# EAGLE library part ESP32 (library esp32)
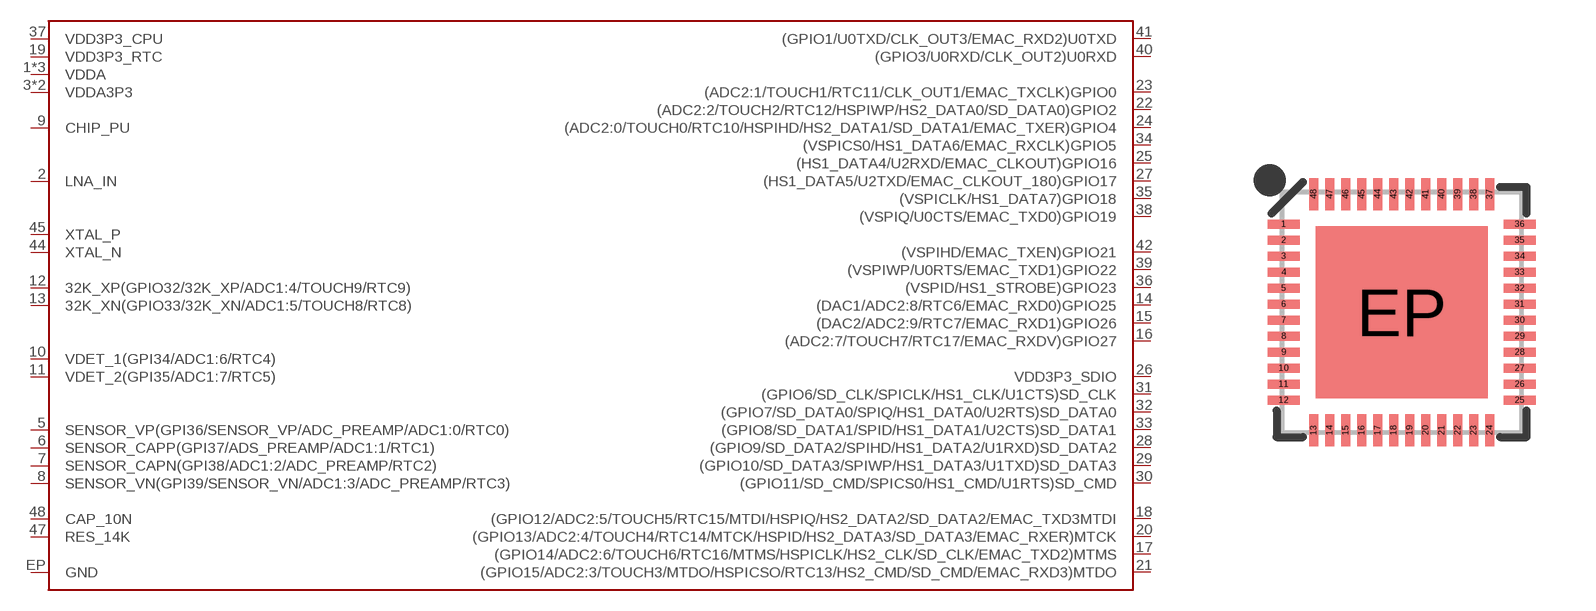
[diagram p0: symbol with the pads of QFN48-0.4MM; footprint QFN48-0.4MM]

Designator prefix -

## ESP32  [QFN48-0.4MM]
1  VDDA
2  LNA_IN
3  VDDA3P3
4  VDDA3P3
5  SENSOR_VP(GPI36/SENSOR_VP/ADC_PREAMP/ADC1:0/RTC0)
6  SENSOR_CAPP(GPI37/ADS_PREAMP/ADC1:1/RTC1)
7  SENSOR_CAPN(GPI38/ADC1:2/ADC_PREAMP/RTC2)
8  SENSOR_VN(GPI39/SENSOR_VN/ADC1:3/ADC_PREAMP/RTC3)
9  CHIP_PU
10  VDET_1(GPI34/ADC1:6/RTC4)
11  VDET_2(GPI35/ADC1:7/RTC5)
12  32K_XP(GPIO32/32K_XP/ADC1:4/TOUCH9/RTC9)
13  32K_XN(GPIO33/32K_XN/ADC1:5/TOUCH8/RTC8)
14  (DAC1/ADC2:8/RTC6/EMAC_RXD0)GPIO25
15  (DAC2/ADC2:9/RTC7/EMAC_RXD1)GPIO26
16  (ADC2:7/TOUCH7/RTC17/EMAC_RXDV)GPIO27
17  (GPIO14/ADC2:6/TOUCH6/RTC16/MTMS/HSPICLK/HS2_CLK/SD_CLK/EMAC_TXD2)MTMS
18  (GPIO12/ADC2:5/TOUCH5/RTC15/MTDI/HSPIQ/HS2_DATA2/SD_DATA2/EMAC_TXD3MTDI
19  VDD3P3_RTC
20  (GPIO13/ADC2:4/TOUCH4/RTC14/MTCK/HSPID/HS2_DATA3/SD_DATA3/EMAC_RXER)MTCK
21  (GPIO15/ADC2:3/TOUCH3/MTDO/HSPICSO/RTC13/HS2_CMD/SD_CMD/EMAC_RXD3)MTDO
22  (ADC2:2/TOUCH2/RTC12/HSPIWP/HS2_DATA0/SD_DATA0)GPIO2
23  (ADC2:1/TOUCH1/RTC11/CLK_OUT1/EMAC_TXCLK)GPIO0
24  (ADC2:0/TOUCH0/RTC10/HSPIHD/HS2_DATA1/SD_DATA1/EMAC_TXER)GPIO4
25  (HS1_DATA4/U2RXD/EMAC_CLKOUT)GPIO16
26  VDD3P3_SDIO
27  (HS1_DATA5/U2TXD/EMAC_CLKOUT_180)GPIO17
28  (GPIO9/SD_DATA2/SPIHD/HS1_DATA2/U1RXD)SD_DATA2
29  (GPIO10/SD_DATA3/SPIWP/HS1_DATA3/U1TXD)SD_DATA3
30  (GPIO11/SD_CMD/SPICS0/HS1_CMD/U1RTS)SD_CMD
31  (GPIO6/SD_CLK/SPICLK/HS1_CLK/U1CTS)SD_CLK
32  (GPIO7/SD_DATA0/SPIQ/HS1_DATA0/U2RTS)SD_DATA0
33  (GPIO8/SD_DATA1/SPID/HS1_DATA1/U2CTS)SD_DATA1
34  (VSPICS0/HS1_DATA6/EMAC_RXCLK)GPIO5
35  (VSPICLK/HS1_DATA7)GPIO18
36  (VSPID/HS1_STROBE)GPIO23
37  VDD3P3_CPU
38  (VSPIQ/U0CTS/EMAC_TXD0)GPIO19
39  (VSPIWP/U0RTS/EMAC_TXD1)GPIO22
40  (GPIO3/U0RXD/CLK_OUT2)U0RXD
41  (GPIO1/U0TXD/CLK_OUT3/EMAC_RXD2)U0TXD
42  (VSPIHD/EMAC_TXEN)GPIO21
43  VDDA
44  XTAL_N
45  XTAL_P
46  VDDA
47  RES_14K
48  CAP_10N
EP  GND

## Footprint QFN48-0.4MM (pad centres in mm)
smd 0.8 x 0.23: 1 -2.95,2.2; 2 -2.95,1.8; 3 -2.95,1.4; 4 -2.95,1; 5 -2.95,0.6; 6 -2.95,0.2; 7 -2.95,-0.2; 8 -2.95,-0.6; 9 -2.95,-1; 10 -2.95,-1.4; 11 -2.95,-1.8; 12 -2.95,-2.2; 25 2.95,-2.2; 26 2.95,-1.8; 27 2.95,-1.4; 28 2.95,-1; 29 2.95,-0.6; 30 2.95,-0.2; 31 2.95,0.2; 32 2.95,0.6; 33 2.95,1; 34 2.95,1.4; 35 2.95,1.8; 36 2.95,2.2
smd 0.23 x 0.8: 13 -2.2,-2.95; 14 -1.8,-2.95; 15 -1.4,-2.95; 16 -1,-2.95; 17 -0.6,-2.95; 18 -0.2,-2.95; 19 0.2,-2.95; 20 0.6,-2.95; 21 1,-2.95; 22 1.4,-2.95; 23 1.8,-2.95; 24 2.2,-2.95; 37 2.2,2.95; 38 1.8,2.95; 39 1.4,2.95; 40 1,2.95; 41 0.6,2.95; 42 0.2,2.95; 43 -0.2,2.95; 44 -0.6,2.95; 45 -1,2.95; 46 -1.4,2.95; 47 -1.8,2.95; 48 -2.2,2.95
smd 4.3 x 4.3: EP 0,0